# Altium footprint library PCB1.PcbLib: 10 footprints
Each footprint in its own frame and in the unit in brackets; x right, y up, seen from the top. Pads: shape width x height; smd on the part's side, far side on the other; paste and mask are expansions set on the pad; w line width, h text height; cw(c..) or ccw(c..) is an arc to the next point about the centre after c.
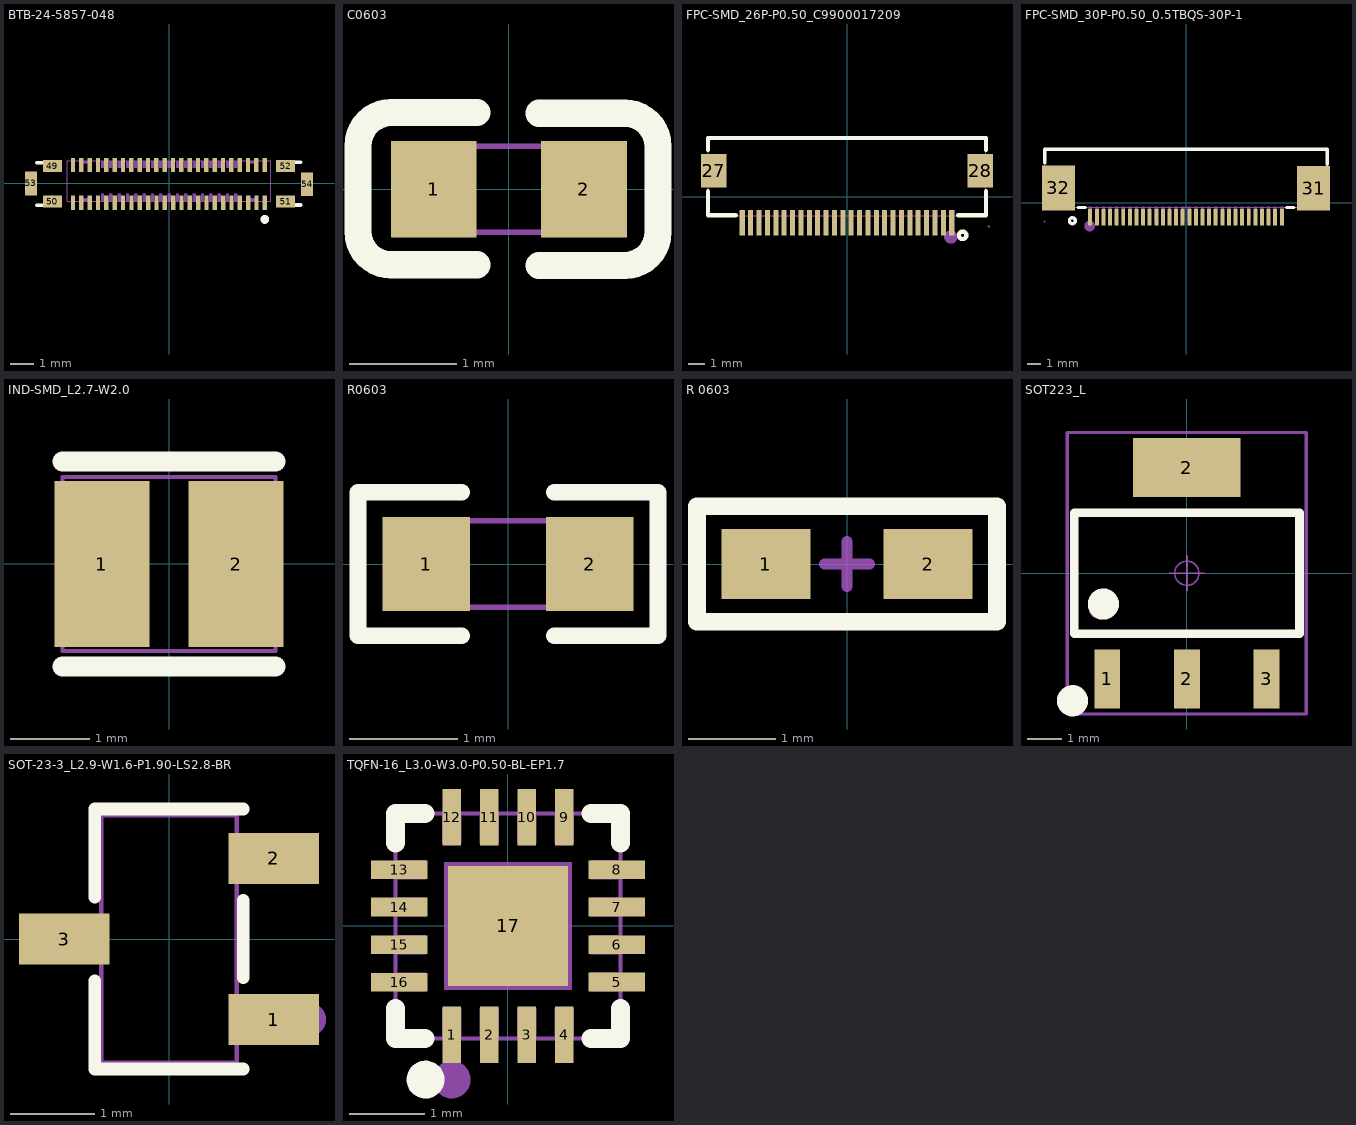
[diagram p0: the footprints below, top view; thin cyan lines are the x and y axes]

## BTB-24-5857-048 [mm]
height 10
pads (54):
  rect 0.18x0.6 smd: 1(4.027,-0.814) 2(3.677,-0.814) 3(3.327,-0.814) 4(2.977,-0.814) 5(2.627,-0.814) 6(2.277,-0.814) 7(1.927,-0.814) 8(1.577,-0.814) 9(1.227,-0.814) 10(0.877,-0.814) 11(0.527,-0.814) 12(0.177,-0.814) 13(-0.173,-0.814) 14(-0.523,-0.814) 15(-0.873,-0.814) 16(-1.223,-0.814) 17(-1.573,-0.814) 18(-1.93,-0.814) 19(-2.28,-0.814) 20(-2.63,-0.814) 21(-2.98,-0.814) 22(-3.33,-0.814) 23(-3.68,-0.814) 24(-4.03,-0.814) 25(-4.033,0.776) 26(-3.683,0.776) 27(-3.333,0.776) 28(-2.983,0.776) 29(-2.633,0.776) 30(-2.283,0.776) 31(-1.933,0.776) 32(-1.583,0.776) 33(-1.233,0.776) 34(-0.883,0.776) 35(-0.533,0.776) 36(-0.183,0.776) 37(0.167,0.776) 38(0.517,0.776) 39(0.867,0.776) 40(1.217,0.776) 41(1.567,0.776) 42(1.917,0.776) 43(2.267,0.776) 44(2.617,0.776) 45(2.967,0.776) 46(3.317,0.776) 47(3.667,0.776) 48(4.017,0.776)
  rect 0.8x0.5 smd: 49(-4.9,0.726) 50(-4.9,-0.764) 51(4.9,-0.764) 52(4.9,0.726)
  rect 0.5x1 smd: 53(-5.8,0) 54(5.8,-0.038)
Top Overlay:
  circle w0.2: c4.025,-1.512 r0.085
  lines w0.15: -5.548,-0.919 -5.274,-0.919 ; -5.548,0.87 -5.274,0.87 ; 5.228,-0.908 5.531,-0.908 ; 5.228,0.881 5.531,0.881
Mechanical 15:
  drawing of 42 lines, arcs and shapes, not listed

## C0603 [mm]
height 10
pads (2):
  rect 0.8x0.9 smd paste+0 mask+0.051: 1(-0.7,0) 2(0.7,0)
Top Overlay:
  lines w0.254: -0.296,-0.704 -1.096,-0.704 cw(c-1.096,-0.394) -1.406,-0.394 -1.405,0.406 cw(c-1.096,0.406) -1.096,0.715 -0.296,0.715 ; 0.28,-0.71 1.08,-0.71 ccw(c1.08,-0.4) 1.39,-0.4 1.39,0.4 ; 0.28,0.71 1.08,0.71 cw(c1.08,0.4) 1.39,0.4
Mechanical 15:
  region: -0.8,-0.4 -0.8,0.4 -0.5,0.4 -0.5,-0.4
  region: 0.8,-0.4 0.8,0.4 0.5,0.4 0.5,-0.4
  lines w0.051: -0.8,-0.4 -0.8,0.4 0.8,0.4 0.8,-0.4 -0.8,-0.4

## FPC-SMD_26P-P0.50_C9900017209 [mm]
height 10
pads (28):
  rect 0.3x1.5 smd paste+0 mask+0.05: 1(6.25,-1.552) 2(5.75,-1.552) 3(5.25,-1.552) 4(4.75,-1.552) 5(4.25,-1.552) 6(3.75,-1.552) 7(3.25,-1.552) 8(2.75,-1.552) 9(2.25,-1.552) 10(1.75,-1.552) 11(1.25,-1.552) 12(0.75,-1.552) 13(0.25,-1.552) 14(-0.25,-1.552) 15(-0.75,-1.552) 16(-1.25,-1.552) 17(-1.75,-1.552) 18(-2.25,-1.552) 19(-2.75,-1.552) 20(-3.25,-1.552) 21(-3.75,-1.552) 22(-4.25,-1.552) 23(-4.75,-1.552) 24(-5.25,-1.552) 25(-5.75,-1.552) 26(-6.25,-1.552)
  rect 1.5x2 smd paste+0 mask+0.05: 27(-7.95,1.552) 28(7.95,1.552)
Top Overlay:
  circle w0.254: c6.9,-2.304 r0.224
  lines w0.254: -8.3,0.321 -8.3,-1.104 -6.631,-1.104 ; -8.3,2.784 -8.3,3.496 8.3,3.496 8.3,2.784 ; 6.631,-1.104 8.3,-1.104 8.3,0.321
Mechanical 6:
  circle w0.4: c6.2,-2.404 r0.2
Mechanical 15:
  drawing of 33 lines, arcs and shapes, not listed

## FPC-SMD_30P-P0.50_0.5TBQS-30P-1 [mm]
height 10
pads (32):
  rect 0.3x1.25 smd: 1(-7.25,-1.104) 2(-6.75,-1.104) 3(-6.25,-1.104) 4(-5.75,-1.104) 5(-5.25,-1.104) 6(-4.75,-1.104) 7(-4.25,-1.104) 8(-3.75,-1.104) 9(-3.25,-1.104) 10(-2.75,-1.104) 11(-2.25,-1.104) 12(-1.75,-1.104) 13(-1.25,-1.104) 14(-0.75,-1.104) 15(-0.25,-1.104) 16(0.25,-1.104) 17(0.75,-1.104) 18(1.25,-1.104) 19(1.75,-1.104) 20(2.25,-1.104) 21(2.75,-1.104) 22(3.25,-1.104) 23(3.75,-1.104) 24(4.25,-1.104) 25(4.75,-1.104) 26(5.25,-1.104) 27(5.75,-1.104) 28(6.25,-1.104) 29(6.75,-1.104) 30(7.25,-1.104)
  rect 2.5x3.4 smd: 31(9.655,1.088) 32(-9.655,1.104)
Top Overlay:
  circle w0.254: c-8.6,-1.372 r0.224
  lines w0.254: -10.7,3.028 -10.7,4.028 10.7,4.028 10.7,2.892 ; -8.174,-0.372 -7.605,-0.372 ; 7.604,-0.372 8.174,-0.372
Mechanical 6:
  circle w0.4: c-7.3,-1.772 r0.2
Mechanical 15:
  drawing of 37 lines, arcs and shapes, not listed

## IND-SMD_L2.7-W2.0 [mm]
height 10
pads (2):
  rect 1.2x2.1 smd: 1(-0.85,0) 2(0.85,0)
Top Overlay:
  lines w0.254: -1.35,-1.3 1.35,-1.3 ; -1.35,1.3 1.35,1.3
Mechanical 15:
  region: 0.5,1.05 1.35,1.05 1.35,-1.05 0.5,-1.05
  region: -1.35,1.05 -0.5,1.05 -0.5,-1.05 -1.35,-1.05
  lines w0.051: -1.35,-1.1 -1.35,1.1 1.35,1.1 1.35,-1.1 -1.35,-1.1

## R0603 [mm]
height 10
pads (2):
  rect 0.806x0.864 smd paste-100 mask+0.051: 1(-0.753,0) 2(0.753,0)
Top Overlay:
  lines w0.152: -0.426,-0.661 -1.385,-0.661 -1.385,0.661 -0.426,0.661 ; 0.426,-0.661 1.385,-0.661 1.385,0.661 0.426,0.661
Top Paste:
  region: -0.355,0.4 -0.355,0.172 -0.735,0.172 -0.735,-0.158 -0.355,-0.158 -0.355,-0.4 -0.405,-0.45 -1.195,-0.45 -1.245,-0.4 -1.245,0.4 -1.195,0.45 -0.405,0.45
  region: 1.195,0.45 0.395,0.45 0.345,0.4 0.345,0.172 0.715,0.172 0.715,-0.158 0.345,-0.158 0.345,-0.4 0.395,-0.45 1.195,-0.45 1.245,-0.4 1.245,0.4
Mechanical 15:
  region: 0.8,-0.4 0.8,0.4 0.5,0.4 0.5,-0.4
  region: -0.8,-0.4 -0.8,0.4 -0.5,0.4 -0.5,-0.4
  lines w0.051: -0.8,-0.4 0.8,-0.4 0.8,0.4 -0.8,0.4 -0.8,-0.4

## R 0603 [mil] "1/10W贴片电阻"
height 393.7
pads (2):
  rect 40x31.5 smd: 1(-36.5,0) 2(36.5,0)
Top Overlay:
  lines w8: -67.5,-26 -67.5,26 67.5,26 67.5,-26 -67.5,-26
Mechanical 15:
  lines w5: -10,0 10,0 ; 0,-10 0,10
3D body "R 0603.STEP": height 15.79, standoff -0.13, extent -31.49,-15.74 31.5,15.75

## SOT223_L [mm] "6.4x7x1.6mm(长宽高)"
height 1.7
pads (4):
  rect 0.75x1.7 smd: 1(-2.3,-3.048) 2(0,-3.048) 3(2.3,-3.048)
  rect 3.1x1.7 smd: 2(0,3.048)
Top Overlay:
  circle w0.5: c-3.302,-3.683 r0.2
  circle w0.5: c-2.413,-0.889 r0.2
  lines w0.25: -3.25,-1.75 3.25,-1.75 3.25,1.75 -3.25,1.75 -3.25,-1.75
Mechanical 13:
  circle w0.1: c-2.536,-1.016 r0.25
  lines w0.1: -3.25,-1.75 3.25,-1.75 3.25,1.75 -3.25,1.75 -3.25,-1.75
Mechanical 15:
  circle w0.05: c0,0 r0.35
  lines w0.05: -0.5,0 0.5,0 ; 0,-0.5 0,0.5
  lines w0.1: -3.45,-4.064 3.45,-4.064 3.45,4.064 -3.45,4.064 -3.45,-4.064
3D body "SOT223.STEP": height 1.65, standoff -0.02, extent -3.25,-3.508 3.25,3.508

## SOT-23-3_L2.9-W1.6-P1.90-LS2.8-BR [mm]
height 10
pads (3):
  rect 1.07x0.6 smd paste+0 mask+0.051: 1(1.235,-0.95) 2(1.235,0.95) 3(-1.235,0)
Top Overlay:
  lines w0.152: -0.876,-0.495 -0.876,-1.536 0.876,-1.536 ; -0.876,0.495 -0.876,1.536 0.876,1.536 ; 0.876,-0.455 0.876,0.455
Mechanical 6:
  circle w0.2: c1.651,-0.95 r0.1
Mechanical 15:
  region: -0.96,-0.2 -0.96,0.2 -0.79,0.2 -0.79,-0.2
  region: -0.95,-0.2 -0.95,0.2 -1.4,0.2 -1.4,-0.2
  region: 0.79,0.75 0.79,1.15 0.96,1.15 0.96,0.75
  region: 0.95,0.75 0.95,1.15 1.4,1.15 1.4,0.75
  region: 0.79,-1.15 0.79,-0.75 0.96,-0.75 0.96,-1.15
  region: 0.95,-1.15 0.95,-0.75 1.4,-0.75 1.4,-1.15
  lines w0.051: -0.8,-1.46 0.8,-1.46 0.8,1.46 -0.8,1.46 -0.8,-1.46

## TQFN-16_L3.0-W3.0-P0.50-BL-EP1.7 [mm]
height 10
pads (17):
  rect 0.25x0.75 smd paste-100 mask+0.051: 1(-0.748,-1.45) 2(-0.249,-1.45) 3(0.252,-1.45) 4(0.751,-1.45) 9(0.75,1.45) 10(0.25,1.45) 11(-0.25,1.45) 12(-0.749,1.45)
  rect 0.75x0.25 smd paste-100 mask+0.051: 5(1.45,-0.75) 6(1.45,-0.25) 7(1.45,0.25) 8(1.45,0.75) 13(-1.45,0.75) 14(-1.45,0.25) 15(-1.45,-0.25) 16(-1.45,-0.75)
  rect 1.6x1.6 smd paste-100 mask+0.051: 17(0,0)
Top Overlay:
  circle w0.254: c-1.1,-2.05 r0.125
  lines w0.254: -1.5,-1.104 -1.5,-1.5 -1.105,-1.5 ; -1.5,1.108 -1.5,1.5 -1.105,1.5 ; 1.106,1.5 1.5,1.5 1.5,1.108 ; 1.108,-1.5 1.5,-1.5 1.5,-1.104
Top Paste:
  region: 0.876,-1.075 0.626,-1.075 0.626,-1.825 0.876,-1.825
  region: 0.377,-1.075 0.127,-1.075 0.127,-1.825 0.377,-1.825
  region: -0.124,-1.075 -0.374,-1.075 -0.374,-1.825 -0.124,-1.825
  region: -0.623,-1.075 -0.873,-1.075 -0.873,-1.825 -0.623,-1.825
  region: 0.876,1.825 0.626,1.825 0.626,1.075 0.876,1.075
  region: 0.376,1.825 0.126,1.825 0.126,1.075 0.376,1.075
  region: -0.124,1.825 -0.374,1.825 -0.374,1.075 -0.124,1.075
  region: -0.624,1.825 -0.874,1.825 -0.874,1.075 -0.624,1.075
  region: 1.825,-0.875 1.825,-0.625 1.075,-0.625 1.075,-0.875
  region: 1.825,-0.375 1.825,-0.125 1.075,-0.125 1.075,-0.375
  region: 1.825,0.125 1.825,0.375 1.075,0.375 1.075,0.125
  region: 1.825,0.625 1.825,0.875 1.075,0.875 1.075,0.625
  region: -1.075,-0.875 -1.075,-0.625 -1.825,-0.625 -1.825,-0.875
  region: -1.075,-0.375 -1.075,-0.125 -1.825,-0.125 -1.825,-0.375
  region: -1.075,0.125 -1.075,0.375 -1.825,0.375 -1.825,0.125
  region: -1.075,0.625 -1.075,0.875 -1.825,0.875 -1.825,0.625
  region: -0.68,0.68 0.68,0.68 0.68,-0.68 -0.68,-0.68
Mechanical 6:
  circle w0.25: c-0.75,-2.05 r0.125
Mechanical 15:
  region: -0.85,0.85 0.85,0.85 0.85,-0.85 -0.85,-0.85
  region: -0.623,-1.5 -0.873,-1.5 -0.873,-1.1 -0.623,-1.1
  region: -0.124,-1.5 -0.374,-1.5 -0.374,-1.1 -0.124,-1.1
  region: 0.377,-1.5 0.127,-1.5 0.127,-1.1 0.377,-1.1
  region: 0.876,-1.5 0.626,-1.5 0.626,-1.1 0.876,-1.1
  region: 1.1,-0.875 1.1,-0.625 1.5,-0.625 1.5,-0.875
  region: 1.1,-0.375 1.1,-0.125 1.5,-0.125 1.5,-0.375
  region: 1.1,0.125 1.1,0.375 1.5,0.375 1.5,0.125
  region: 1.1,0.625 1.1,0.875 1.5,0.875 1.5,0.625
  region: 0.625,1.5 0.875,1.5 0.875,1.1 0.625,1.1
  region: 0.125,1.5 0.375,1.5 0.375,1.1 0.125,1.1
  region: -0.374,1.5 -0.124,1.5 -0.124,1.1 -0.374,1.1
  region: -0.874,1.5 -0.624,1.5 -0.624,1.1 -0.874,1.1
  region: -1.1,0.875 -1.1,0.625 -1.5,0.625 -1.5,0.875
  region: -1.1,0.375 -1.1,0.125 -1.5,0.125 -1.5,0.375
  region: -1.1,-0.125 -1.1,-0.375 -1.5,-0.375 -1.5,-0.125
  region: -1.1,-0.625 -1.1,-0.875 -1.5,-0.875 -1.5,-0.625
  lines w0.051: -1.5,-1.5 -1.5,1.5 1.5,1.5 1.5,-1.5 -1.5,-1.5